# EAGLE library part TS5A21366 (library nonolith)
200ma digitally controlled switch: TS5A21366
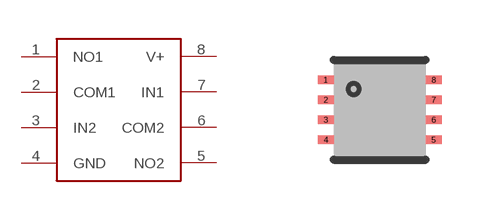
[diagram p1: symbol with the pads of DCU-8; footprint DCU-8]

Designator prefix -

## TS5A21366  [DCU-8]
1  NO1
2  COM1
3  IN2
4  GND
5  NO2
6  COM2
7  IN1
8  V+

## Footprint DCU-8 (pad centres in mm)
DCU / MSOP8 - .5
smd 0.4 x 0.21: 1 -2.7,1.5; 2 -2.7,1; 3 -2.7,0.5; 4 -2.7,0; 5 0,0; 6 0,0.5; 7 0,1; 8 0,1.5